# EAGLE library part PANDABOARD (library chlk_bot)
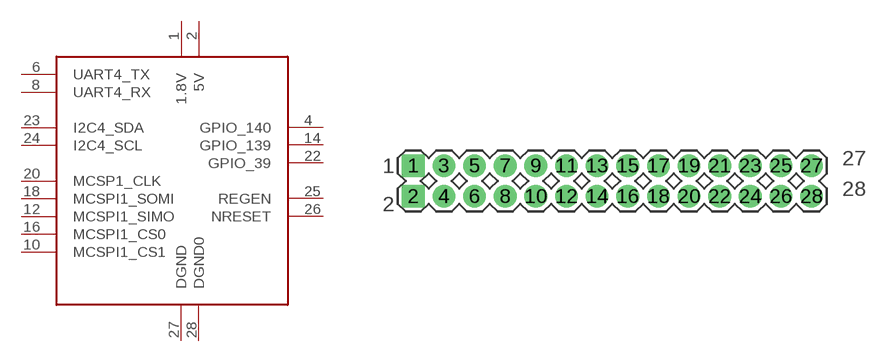
[diagram p16: symbol with the pads of PANDABOARD; footprint PANDABOARD]

Designator prefix -

## PANDABOARD  [PANDABOARD]
1  1.8V
2  5V
4  GPIO_140
6  UART4_TX
8  UART4_RX
10  MCSPI1_CS1
12  MCSPI1_SIMO
14  GPIO_139
16  MCSPI1_CS0
18  MCSPI1_SOMI
20  MCSP1_CLK
22  GPIO_39
23  I2C4_SDA
24  I2C4_SCL
25  REGEN
26  NRESET
27  DGND
28  DGND0

## Footprint PANDABOARD (pad centres in mm)
drill 1.016 pad 1.88 square: 1 0,0; 2 0,-2.54
drill 1.016 pad 1.88 round: 3 2.54,0; 4 2.54,-2.54; 5 5.08,0; 6 5.08,-2.54; 7 7.62,0; 8 7.62,-2.54; 9 10.16,0; 10 10.16,-2.54; 11 12.7,0; 12 12.7,-2.54; 13 15.24,0; 14 15.24,-2.54; 15 17.78,0; 16 17.78,-2.54; 17 20.32,0; 18 20.32,-2.54; 19 22.86,0; 20 22.86,-2.54; 21 25.4,0; 22 25.4,-2.54; 23 27.94,0; 24 27.94,-2.54; 25 30.48,0; 26 30.48,-2.54; 27 33.02,0; 28 33.02,-2.54